# EAGLE library part 2345986-1 (library USB C smd -2345986-1)
Check availability <https://pricing.snapeda.com/parts/2345986-1/TE%20Connectivity/view-part?ref=eda>
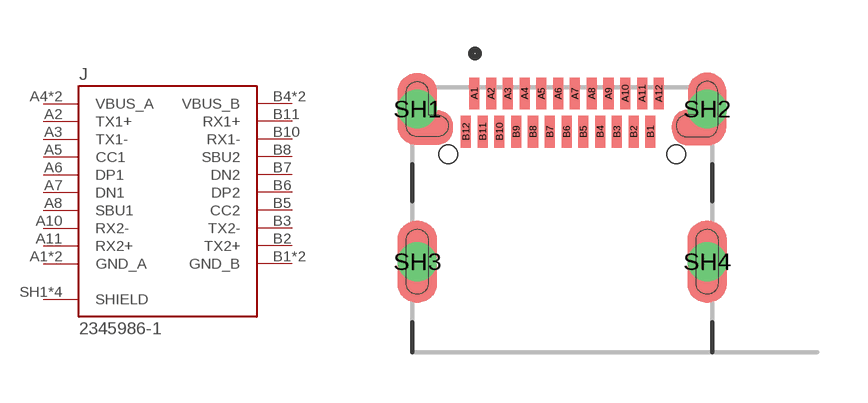
[diagram p0: symbol with the pads of TE_2345986-1; footprint TE_2345986-1]

Designator prefix J

## 2345986-1 (Availability: In Stock; Check_prices: https://www.snapeda.com/parts/2345986-1/TE+Connectivity/view-part/?ref=eda; Description: USB TYPE C 3.1 TOP MOUNT DUAL SMT 1.63CH; MF: TE Connectivity; MP: 2345986-1; Package: None; Price: None; SnapEDA_Link: https://www.snapeda.com/parts/2345986-1/TE+Connectivity/view-part/?ref=snap)  [TE_2345986-1]
A1  GND_A  pwr
A2  TX1+
A3  TX1-
A4  VBUS_A  pwr
A5  CC1
A6  DP1
A7  DN1
A8  SBU1
A9  VBUS_A  pwr
A10  RX2-
A11  RX2+
A12  GND_A  pwr
B1  GND_B  pwr
B2  TX2+
B3  TX2-
B4  VBUS_B  pwr
B5  CC2
B6  DP2
B7  DN2
B8  SBU2
B9  VBUS_B  pwr
B10  RX1-
B11  RX1+
B12  GND_B  pwr
SH1  SHIELD  pas
SH2  SHIELD  pas
SH3  SHIELD  pas
SH4  SHIELD  pas

## Footprint TE_2345986-1 (pad centres in mm)
smd 0.3 x 0.95: A1 -2.62,3.765; A2 -2.12,3.765; A3 -1.62,3.765; A4 -1.12,3.765; A5 -0.62,3.765; A6 -0.12,3.765; A7 0.38,3.765; A8 0.88,3.765; A9 1.38,3.765; A10 1.88,3.765; A11 2.38,3.765; A12 2.88,3.765; B1 2.63,2.625; B2 2.13,2.625; B3 1.63,2.625; B4 1.13,2.625; B5 0.63,2.625; B6 0.13,2.625; B7 -0.37,2.625; B8 -0.87,2.625; B9 -1.37,2.625; B10 -1.87,2.625; B11 -2.37,2.625; B12 -2.87,2.625
drill 0.65 pad 1.14: SH1 -4.32,3.3; SH2 4.32,3.3; SH3 -4.32,-1.25; SH4 4.32,-1.25
hole 0.55 at -3.4,1.95
hole 0.55 at 3.4,1.95